# Altium integrated library Micron Memory Parallel NOR Flash.IntLib: 720 symbols (part 4 of 216)
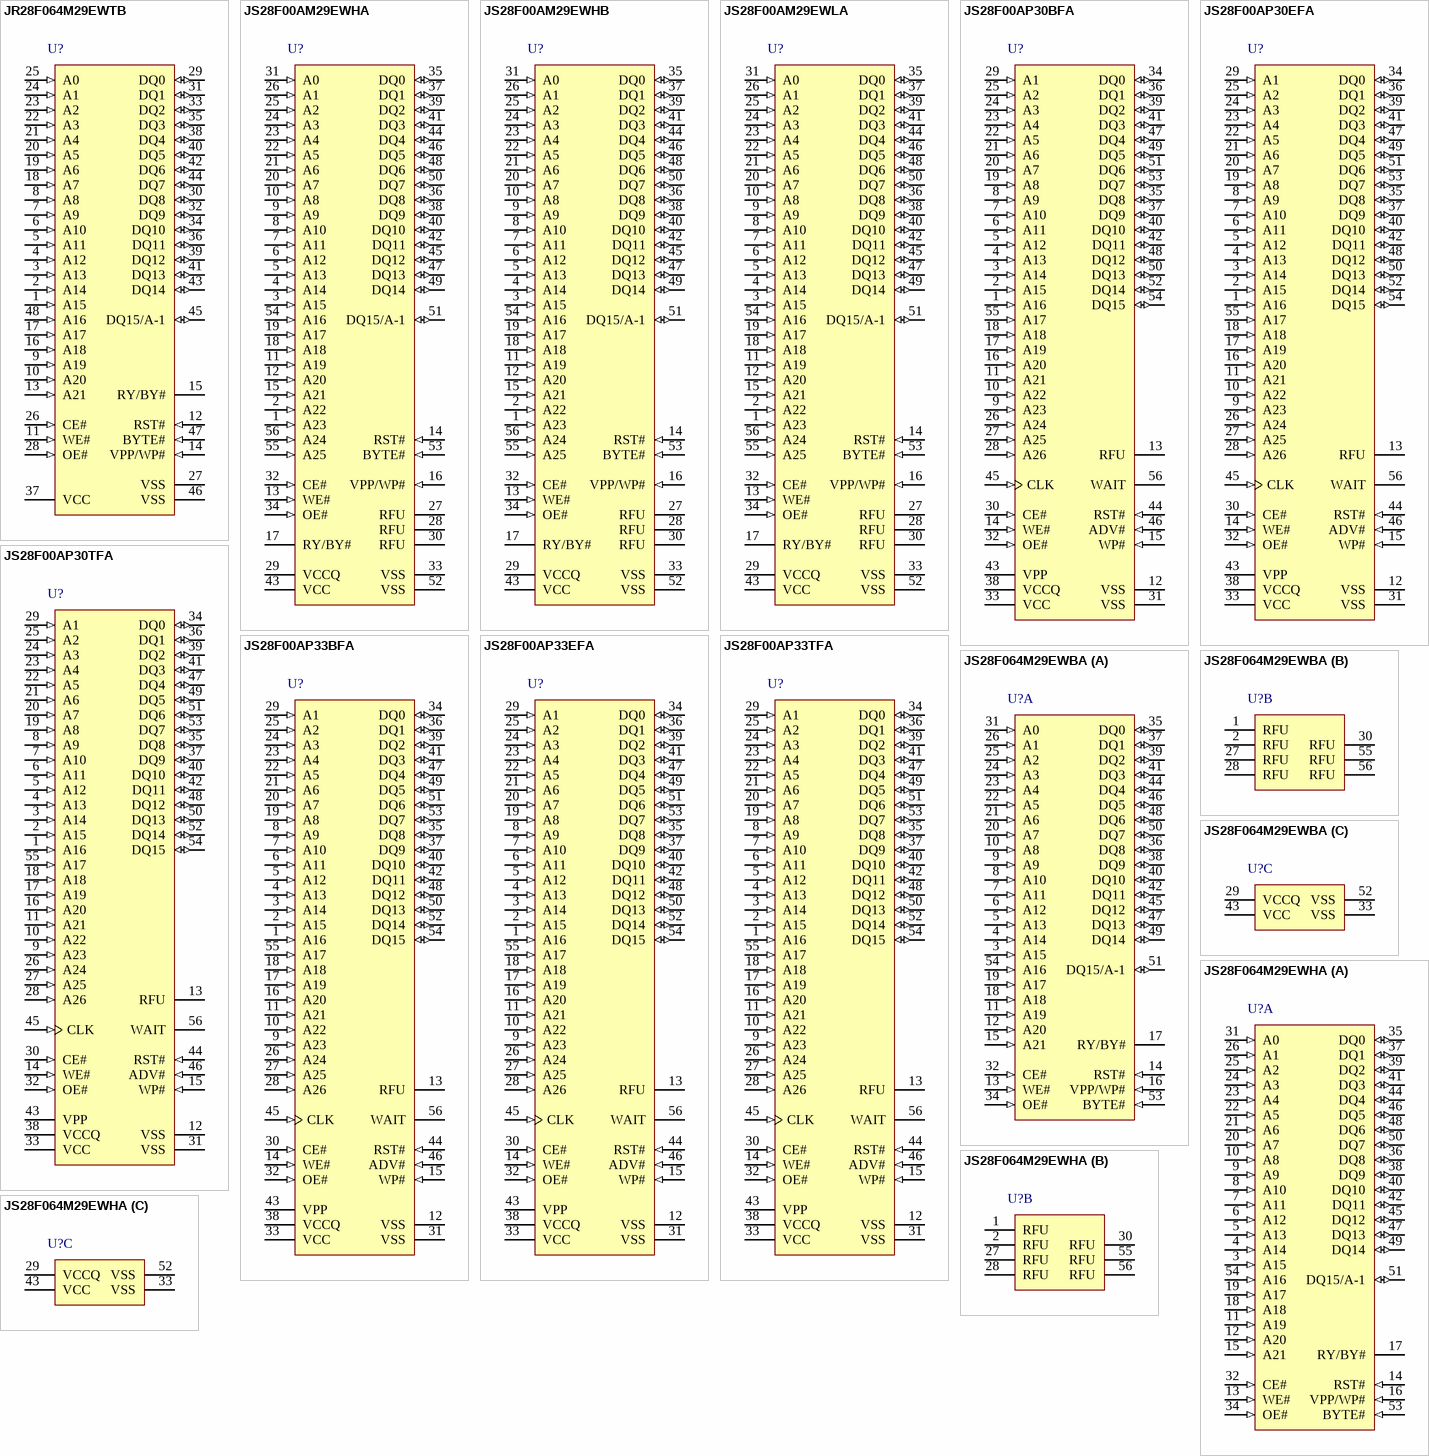
[diagram p69: symbols JR28F064M29EWTB to JS28F064M29EWHA]

## JR28F064M29EWTB
designator U?
64 Mb (x8/x16) Parallel NOR Flash Memory, 70 ns, 2.7 to 3.6 V, 48-pin TSOP (JR), Tape & Reel; Part Family: M29EW; Manufacturer: Micron; PartNumber: JR28F064M29EWTB; Density: 64Mb; Op Temp: -40C to +85C; Speed: 70ns; Voltage: 2.7V-3.6V; DatasheetVersion: Rev. A; PackageVersion: Rev. A; PackageReference: MICT-JR-48; PackageDescription: 48-Pin TSOP, 18.4 X 12 mm, Pitch 0.5 mm; RoHS: Yes; Width: x8/x16; Mounting Technology: Surface Mount; ComponentLink1Description: Manufacturer URL; ComponentLink1URL: http://www.micron.com/; ComponentLink2Description: Datasheet; ComponentLink2URL: http://www.micron.com/~/media/Documents/Products/Data%20Sheet/NOR%20Flash/Parallel/M29EW/m29ew_32mb_128mb.pdf; ComponentLink3Description: Package Specification; ComponentLink3URL: http://www.micron.com/~/media/Documents/Products/Data%20Sheet/NOR%20Flash/Parallel/M29EW/m29ew_32mb_128mb.pdf
footprint MICT-JR-48_N (SOP, 48-Leads, Body 18.4x12mm, Pitch 0.5mm, IPC Medium Density)
pins: 1 A15 (in) "Address: Selects the cells in the array to access during READ operations. During WRITE operations, they control the commands sent to the command interface of the program/erase controller.", 2 A14 (in) "Address: Selects the cells in the array to access during READ operations. During WRITE operations, they control the commands sent to the command interface of the program/erase controller.", 3 A13 (in) "Address: Selects the cells in the array to access during READ operations. During WRITE operations, they control the commands sent to the command interface of the program/erase controller.", 4 A12 (in) "Address: Selects the cells in the array to access during READ operations. During WRITE operations, they control the commands sent to the command interface of the program/erase controller.", 5 A11 (in) "Address: Selects the cells in the array to access during READ operations. During WRITE operations, they control the commands sent to the command interface of the program/erase controller.", 6 A10 (in) "Address: Selects the cells in the array to access during READ operations. During WRITE operations, they control the commands sent to the command interface of the program/erase controller.", 7 A9 (in) "Address: Selects the cells in the array to access during READ operations. During WRITE operations, they control the commands sent to the command interface of the program/erase controller.", 8 A8 (in) "Address: Selects the cells in the array to access during READ operations. During WRITE operations, they control the commands sent to the command interface of the program/erase controller.", 9 A19 (in) "Address: Selects the cells in the array to access during READ operations. During WRITE operations, they control the commands sent to the command interface of the program/erase controller.", 10 A20 (in) "Address: Selects the cells in the array to access during READ operations. During WRITE operations, they control the commands sent to the command interface of the program/erase controller.", 11 WE# (in) "Write enable: Controls the bus WRITE operation of the command interface.", 12 RST# (in) "Reset: Applies a hardware reset to the device, which is achieved by holding RST# LOW for at least tPLPX. After RST# goes HIGH, the device is ready for READ and WRITE operations (after tPHEL or tRHEL, whichever occurs last). (See Datasheet)", 13 A21 (in) "Address: Selects the cells in the array to access during READ operations. During WRITE operations, they control the commands sent to the command interface of the program/erase controller.", 14 VPP/WP# (in) "VPP/Write Protect: Provides WRITE PROTECT function and VPPH function. These functions protect the lowest or highest block or top two blocks or bottom two blocks, enable the device to enter unlock bypass mode and accelerate (See Datasheet)", 15 RY/BY# (hiz) "Ready busy: Open-drain output that can be used to identify when the device is performing a PROGRAM or ERASE operation. During PROGRAM or ERASE operations, RY/BY# is LOW, and is High-Z during read mode, auto select mode, and (See Datasheet)", 16 A18 (in) "Address: Selects the cells in the array to access during READ operations. During WRITE operations, they control the commands sent to the command interface of the program/erase controller.", 17 A17 (in) "Address: Selects the cells in the array to access during READ operations. During WRITE operations, they control the commands sent to the command interface of the program/erase controller.", 18 A7 (in) "Address: Selects the cells in the array to access during READ operations. During WRITE operations, they control the commands sent to the command interface of the program/erase controller.", 19 A6 (in) "Address: Selects the cells in the array to access during READ operations. During WRITE operations, they control the commands sent to the command interface of the program/erase controller.", 20 A5 (in) "Address: Selects the cells in the array to access during READ operations. During WRITE operations, they control the commands sent to the command interface of the program/erase controller.", 21 A4 (in) "Address: Selects the cells in the array to access during READ operations. During WRITE operations, they control the commands sent to the command interface of the program/erase controller.", 22 A3 (in) "Address: Selects the cells in the array to access during READ operations. During WRITE operations, they control the commands sent to the command interface of the program/erase controller.", 23 A2 (in) "Address: Selects the cells in the array to access during READ operations. During WRITE operations, they control the commands sent to the command interface of the program/erase controller.", 24 A1 (in) "Address: Selects the cells in the array to access during READ operations. During WRITE operations, they control the commands sent to the command interface of the program/erase controller.", 25 A0 (in) "Address: Selects the cells in the array to access during READ operations. During WRITE operations, they control the commands sent to the command interface of the program/erase controller.", 26 CE# (in) "Chip enable: Activates the device, enabling READ and WRITE operations to be performed. When CE# is HIGH, the device goes to standby and data outputs are at HIGH-Z.", 27 VSS (power) "Ground: All VSS pins must be connected to the system ground.", 28 OE# (in) "Output enable: Controls the bus READ operation.", 29 DQ0 (io) "Data I/O: Output the data stored at the selected address during a READ operation. During WRITE operations, they represent the commands sent to the command interface of the internal state machine.", 30 DQ8 (io) "Data I/O: Output the data stored at the selected address during a READ operation when BYTE# is HIGH. When BYTE# is LOW, these pins are not used and are High-Z. During WRITE operations, these bits are not used. When reading (See Datasheet)", 31 DQ1 (io) "Data I/O: Output the data stored at the selected address during a READ operation. During WRITE operations, they represent the commands sent to the command interface of the internal state machine.", 32 DQ9 (io) "Data I/O: Output the data stored at the selected address during a READ operation when BYTE# is HIGH. When BYTE# is LOW, these pins are not used and are High-Z. During WRITE operations, these bits are not used. When reading (See Datasheet)", 33 DQ2 (io) "Data I/O: Output the data stored at the selected address during a READ operation. During WRITE operations, they represent the commands sent to the command interface of the internal state machine.", 34 DQ10 (io) "Data I/O: Output the data stored at the selected address during a READ operation when BYTE# is HIGH. When BYTE# is LOW, these pins are not used and are High-Z. During WRITE operations, these bits are not used. When reading (See Datasheet)", 35 DQ3 (io) "Data I/O: Output the data stored at the selected address during a READ operation. During WRITE operations, they represent the commands sent to the command interface of the internal state machine.", 36 DQ11 (io) "Data I/O: Output the data stored at the selected address during a READ operation when BYTE# is HIGH. When BYTE# is LOW, these pins are not used and are High-Z. During WRITE operations, these bits are not used. When reading (See Datasheet)", 37 VCC (power) "Supply voltage: Provides the power supply for READ, PROGRAM, and ERASE operations. The command interface is disabled when VCC <= VLKO. This prevents WRITE operations from accidentally damaging the data during power-up, (See Datasheet)", 38 DQ4 (io) "Data I/O: Output the data stored at the selected address during a READ operation. During WRITE operations, they represent the commands sent to the command interface of the internal state machine.", 39 DQ12 (io) "Data I/O: Output the data stored at the selected address during a READ operation when BYTE# is HIGH. When BYTE# is LOW, these pins are not used and are High-Z. During WRITE operations, these bits are not used. When reading (See Datasheet)", 40 DQ5 (io) "Data I/O: Output the data stored at the selected address during a READ operation. During WRITE operations, they represent the commands sent to the command interface of the internal state machine.", 41 DQ13 (io) "Data I/O: Output the data stored at the selected address during a READ operation when BYTE# is HIGH. When BYTE# is LOW, these pins are not used and are High-Z. During WRITE operations, these bits are not used. When reading (See Datasheet)", 42 DQ6 (io) "Data I/O: Output the data stored at the selected address during a READ operation. During WRITE operations, they represent the commands sent to the command interface of the internal state machine.", 43 DQ14 (io) "Data I/O: Output the data stored at the selected address during a READ operation when BYTE# is HIGH. When BYTE# is LOW, these pins are not used and are High-Z. During WRITE operations, these bits are not used. When reading (See Datasheet)", 44 DQ7 (io) "Data I/O: Output the data stored at the selected address during a READ operation. During WRITE operations, they represent the commands sent to the command interface of the internal state machine.", 45 DQ15/A-1 (io) "Data I/O or address input: When the device operates in x16 bus mode, this pin behaves as data I/O, together with DQ[14:8]. When the device operates in x8 bus mode, this pin behaves as the least significant bit of the address.(See Datasheet)", 46 VSS (power) "Ground: All VSS pins must be connected to the system ground.", 47 BYTE# (in) "Byte/word organization select: Switches between x8 and x16 bus modes. When BYTE# is LOW, the device is in x8 mode; when HIGH, the device is in x16 mode..", 48 A16 (in) "Address: Selects the cells in the array to access during READ operations. During WRITE operations, they control the commands sent to the command interface of the program/erase controller."

## JS28F00AM29EWHA
designator U?
1 Gb (x8/x16) Parallel NOR Flash Memory, 110 ns, 2.7 to 3.6 V, 56-pin TSOP (JS), Tray; Part Family: M29EW; Manufacturer: Micron; PartNumber: JS28F00AM29EWHA; Density: 1Gb; Op Temp: -40C to +85C; Speed: 110ns; Voltage: 2.7V-3.6V; DatasheetVersion: Rev. B; PackageVersion: Rev. 12; PackageReference: MICT-JS-56; PackageDescription: 56-Pin TSOP, 18.4 X 14 mm, Pitch 0.5 mm; RoHS: Yes; Width: x8/x16; Mounting Technology: Surface Mount; ComponentLink1Description: Manufacturer URL; ComponentLink1URL: http://www.micron.com/; ComponentLink2Description: Datasheet; ComponentLink2URL: http://www.micron.com/~/media/Documents/Products/Data%20Sheet/NOR%20Flash/Parallel/M29EW/m29ew_256mb_2gb.pdf; ComponentLink3Description: Package Specification; ComponentLink3URL: http://www.micron.com/~/media/Documents/Products/Data%20Sheet/NOR%20Flash/Parallel/P33/320003_P33_65nm_MLC_256MDiscrete_512MStack_DS.pdf
footprint MICT-JS-56_N (SOP, 56-Leads, Body 18.6x14.2mm, Pitch 0.5mm, IPC Medium Density)
pins: 1 A23 (in) "Address: Selects the cells in the array to access during READ operations. During WRITE operations,they control the commands sent to the command interface of the program/erase controller.", 2 A22 (in) "Address: Selects the cells in the array to access during READ operations. During WRITE operations,they control the commands sent to the command interface of the program/erase controller.", 3 A15 (in) "Address: Selects the cells in the array to access during READ operations. During WRITE operations,they control the commands sent to the command interface of the program/erase controller.", 4 A14 (in) "Address: Selects the cells in the array to access during READ operations. During WRITE operations,they control the commands sent to the command interface of the program/erase controller.", 5 A13 (in) "Address: Selects the cells in the array to access during READ operations. During WRITE operations,they control the commands sent to the command interface of the program/erase controller.", 6 A12 (in) "Address: Selects the cells in the array to access during READ operations. During WRITE operations,they control the commands sent to the command interface of the program/erase controller.", 7 A11 (in) "Address: Selects the cells in the array to access during READ operations. During WRITE operations,they control the commands sent to the command interface of the program/erase controller.", 8 A10 (in) "Address: Selects the cells in the array to access during READ operations. During WRITE operations,they control the commands sent to the command interface of the program/erase controller.", 9 A9 (in) "Address: Selects the cells in the array to access during READ operations. During WRITE operations,they control the commands sent to the command interface of the program/erase controller.", 10 A8 (in) "Address: Selects the cells in the array to access during READ operations. During WRITE operations,they control the commands sent to the command interface of the program/erase controller.", 11 A19 (in) "Address: Selects the cells in the array to access during READ operations. During WRITE operations,they control the commands sent to the command interface of the program/erase controller.", 12 A20 (in) "Address: Selects the cells in the array to access during READ operations. During WRITE operations,they control the commands sent to the command interface of the program/erase controller.", 13 WE# (in) "Write enable: Controls the bus WRITE operation of the command interface.", 14 RST# (in) "Reset: Applies a hardware reset to the device, which is achieved by holding RST# LOW for at least tPLPX. After RST# goes HIGH, the device is ready for READ and WRITE operations (after tPHEL or tRHEL, whichever occurs last). (See Datasheet)", 15 A21 (in) "Address: Selects the cells in the array to access during READ operations. During WRITE operations,they control the commands sent to the command interface of the program/erase controller.", 16 VPP/WP# (in) "VPP/Write Protect: Provides WRITE PROTECT function and VPPH function. These functions protect the lowest or highest block and enable the device to enter unlock bypass mode, respectively.(Refer to Hardware Protection and (See Datasheet)", 17 RY/BY# (hiz) "Ready busy: Open-drain output that can be used to identify when the device is performing a PROGRAM or ERASE operation. During PROGRAM or ERASE operations, RY/BY# is LOW,and is High-Z during read mode, auto select mode, and (See Datasheet)", 18 A18 (in) "Address: Selects the cells in the array to access during READ operations. During WRITE operations,they control the commands sent to the command interface of the program/erase controller.", 19 A17 (in) "Address: Selects the cells in the array to access during READ operations. During WRITE operations,they control the commands sent to the command interface of the program/erase controller.", 20 A7 (in) "Address: Selects the cells in the array to access during READ operations. During WRITE operations,they control the commands sent to the command interface of the program/erase controller.", 21 A6 (in) "Address: Selects the cells in the array to access during READ operations. During WRITE operations,they control the commands sent to the command interface of the program/erase controller.", 22 A5 (in) "Address: Selects the cells in the array to access during READ operations. During WRITE operations,they control the commands sent to the command interface of the program/erase controller.", 23 A4 (in) "Address: Selects the cells in the array to access during READ operations. During WRITE operations,they control the commands sent to the command interface of the program/erase controller.", 24 A3 (in) "Address: Selects the cells in the array to access during READ operations. During WRITE operations,they control the commands sent to the command interface of the program/erase controller.", 25 A2 (in) "Address: Selects the cells in the array to access during READ operations. During WRITE operations,they control the commands sent to the command interface of the program/erase controller.", 26 A1 (in) "Address: Selects the cells in the array to access during READ operations. During WRITE operations,they control the commands sent to the command interface of the program/erase controller.", 27 RFU "Reserved for future use: RFUs should be not connected.", 28 RFU "Reserved for future use: RFUs should be not connected.", 29 VCCQ (power) "I/O supply voltage: Provides the power supply to the I/O pins and enables all outputs to be powered independently from VCC.", 30 RFU "Reserved for future use: RFUs should be not connected.", 31 A0 (in) "Address: Selects the cells in the array to access during READ operations. During WRITE operations,they control the commands sent to the command interface of the program/erase controller.", 32 CE# (in) "Chip enable: Activates the device, enabling READ and WRITE operations to be performed.When CE# is HIGH, the device goes to standby and data outputs are at HIGH-Z.", 33 VSS (power) "Ground: All VSS pins must be connected to the system ground.", 34 OE# (in) "Output enable: Controls the bus READ operation.", 35 DQ0 (io) "Data I/O: Output the data stored at the selected address during a READ operation. During WRITE operations, they represent the commands sent to the command interface of the internal state machine.", 36 DQ8 (io) "Data I/O: Output the data stored at the selected address during a READ operation when BYTE# is HIGH. When BYTE# is LOW, these pins are not used and are High-Z. During WRITE operations, these bits are not used. When reading (See Datasheet)", 37 DQ1 (io) "Data I/O: Output the data stored at the selected address during a READ operation. During WRITE operations, they represent the commands sent to the command interface of the internal state machine.", 38 DQ9 (io) "Data I/O: Output the data stored at the selected address during a READ operation when BYTE# is HIGH. When BYTE# is LOW, these pins are not used and are High-Z. During WRITE operations, these bits are not used. When reading (See Datasheet)", 39 DQ2 (io) "Data I/O: Output the data stored at the selected address during a READ operation. During WRITE operations, they represent the commands sent to the command interface of the internal state machine.", 40 DQ10 (io) "Data I/O: Output the data stored at the selected address during a READ operation when BYTE# is HIGH. When BYTE# is LOW, these pins are not used and are High-Z. During WRITE operations, these bits are not used. When reading (See Datasheet)", 41 DQ3 (io) "Data I/O: Output the data stored at the selected address during a READ operation. During WRITE operations, they represent the commands sent to the command interface of the internal state machine.", 42 DQ11 (io) "Data I/O: Output the data stored at the selected address during a READ operation when BYTE# is HIGH. When BYTE# is LOW, these pins are not used and are High-Z. During WRITE operations, these bits are not used. When reading (See Datasheet)", 43 VCC (power) "Supply voltage: Provides the power supply for READ, PROGRAM, and ERASE operations.The command interface is disabled when VCC <= VLKO. This prevents WRITE operations from accidentally damaging the data during power-up, (See Datasheet)", 44 DQ4 (io) "Data I/O: Output the data stored at the selected address during a READ operation. During WRITE operations, they represent the commands sent to the command interface of the internal state machine.", 45 DQ12 (io) "Data I/O: Output the data stored at the selected address during a READ operation when BYTE# is HIGH. When BYTE# is LOW, these pins are not used and are High-Z. During WRITE operations, these bits are not used. When reading (See Datasheet)", 46 DQ5 (io) "Data I/O: Output the data stored at the selected address during a READ operation. During WRITE operations, they represent the commands sent to the command interface of the internal state machine.", 47 DQ13 (io) "Data I/O: Output the data stored at the selected address during a READ operation when BYTE# is HIGH. When BYTE# is LOW, these pins are not used and are High-Z. During WRITE operations, these bits are not used. When reading (See Datasheet)", 48 DQ6 (io) "Data I/O: Output the data stored at the selected address during a READ operation. During WRITE operations, they represent the commands sent to the command interface of the internal state machine.", 49 DQ14 (io) "Data I/O: Output the data stored at the selected address during a READ operation when BYTE# is HIGH. When BYTE# is LOW, these pins are not used and are High-Z. During WRITE operations, these bits are not used. When reading (See Datasheet)", 50 DQ7 (io) "Data I/O: Output the data stored at the selected address during a READ operation. During WRITE operations, they represent the commands sent to the command interface of the internal state machine.", 51 DQ15/A-1 (io) "Data I/O or address input: When the device operates in x16 bus mode, this pin behaves as data I/O, together with DQ[14:8]. When the device operates in x8 bus mode, this pin behaves as the least significant bit of the address.(See Datasheet)", 52 VSS (power) "Ground: All VSS pins must be connected to the system ground.", 53 BYTE# (in) "Byte/word organization select: Switches between x8 and x16 bus modes. When BYTE# is LOW, the device is in x8 mode; when HIGH, the device is in x16 mode.", 54 A16 (in) "Address: Selects the cells in the array to access during READ operations. During WRITE operations,they control the commands sent to the command interface of the program/erase controller.", 55 A25 (in) "Address: Selects the cells in the array to access during READ operations. During WRITE operations,they control the commands sent to the command interface of the program/erase controller.", 56 A24 (in) "Address: Selects the cells in the array to access during READ operations. During WRITE operations,they control the commands sent to the command interface of the program/erase controller."

## JS28F00AM29EWHB
designator U?
1 Gb (x8/x16) Parallel NOR Flash Memory, 110 ns, 2.7 to 3.6 V, 56-pin TSOP (JS), Tape & Reel; Part Family: M29EW; Manufacturer: Micron; PartNumber: JS28F00AM29EWHB; Density: 1Gb; Op Temp: -40C to +85C; Speed: 110ns; Voltage: 2.7V-3.6V; DatasheetVersion: Rev. B; PackageVersion: Rev. 12; PackageReference: MICT-JS-56; PackageDescription: 56-Pin TSOP, 18.4 X 14 mm, Pitch 0.5 mm; RoHS: Yes; Width: x8/x16; Mounting Technology: Surface Mount; ComponentLink1Description: Manufacturer URL; ComponentLink1URL: http://www.micron.com/; ComponentLink2Description: Datasheet; ComponentLink2URL: http://www.micron.com/~/media/Documents/Products/Data%20Sheet/NOR%20Flash/Parallel/M29EW/m29ew_256mb_2gb.pdf; ComponentLink3Description: Package Specification; ComponentLink3URL: http://www.micron.com/~/media/Documents/Products/Data%20Sheet/NOR%20Flash/Parallel/P33/320003_P33_65nm_MLC_256MDiscrete_512MStack_DS.pdf
footprint MICT-JS-56_N (SOP, 56-Leads, Body 18.6x14.2mm, Pitch 0.5mm, IPC Medium Density)
pins: 1 A23 (in) "Address: Selects the cells in the array to access during READ operations. During WRITE operations,they control the commands sent to the command interface of the program/erase controller.", 2 A22 (in) "Address: Selects the cells in the array to access during READ operations. During WRITE operations,they control the commands sent to the command interface of the program/erase controller.", 3 A15 (in) "Address: Selects the cells in the array to access during READ operations. During WRITE operations,they control the commands sent to the command interface of the program/erase controller.", 4 A14 (in) "Address: Selects the cells in the array to access during READ operations. During WRITE operations,they control the commands sent to the command interface of the program/erase controller.", 5 A13 (in) "Address: Selects the cells in the array to access during READ operations. During WRITE operations,they control the commands sent to the command interface of the program/erase controller.", 6 A12 (in) "Address: Selects the cells in the array to access during READ operations. During WRITE operations,they control the commands sent to the command interface of the program/erase controller.", 7 A11 (in) "Address: Selects the cells in the array to access during READ operations. During WRITE operations,they control the commands sent to the command interface of the program/erase controller.", 8 A10 (in) "Address: Selects the cells in the array to access during READ operations. During WRITE operations,they control the commands sent to the command interface of the program/erase controller.", 9 A9 (in) "Address: Selects the cells in the array to access during READ operations. During WRITE operations,they control the commands sent to the command interface of the program/erase controller.", 10 A8 (in) "Address: Selects the cells in the array to access during READ operations. During WRITE operations,they control the commands sent to the command interface of the program/erase controller.", 11 A19 (in) "Address: Selects the cells in the array to access during READ operations. During WRITE operations,they control the commands sent to the command interface of the program/erase controller.", 12 A20 (in) "Address: Selects the cells in the array to access during READ operations. During WRITE operations,they control the commands sent to the command interface of the program/erase controller.", 13 WE# (in) "Write enable: Controls the bus WRITE operation of the command interface.", 14 RST# (in) "Reset: Applies a hardware reset to the device, which is achieved by holding RST# LOW for at least tPLPX. After RST# goes HIGH, the device is ready for READ and WRITE operations (after tPHEL or tRHEL, whichever occurs last). (See Datasheet)", 15 A21 (in) "Address: Selects the cells in the array to access during READ operations. During WRITE operations,they control the commands sent to the command interface of the program/erase controller.", 16 VPP/WP# (in) "VPP/Write Protect: Provides WRITE PROTECT function and VPPH function. These functions protect the lowest or highest block and enable the device to enter unlock bypass mode, respectively.(Refer to Hardware Protection and (See Datasheet)", 17 RY/BY# (hiz) "Ready busy: Open-drain output that can be used to identify when the device is performing a PROGRAM or ERASE operation. During PROGRAM or ERASE operations, RY/BY# is LOW,and is High-Z during read mode, auto select mode, and (See Datasheet)", 18 A18 (in) "Address: Selects the cells in the array to access during READ operations. During WRITE operations,they control the commands sent to the command interface of the program/erase controller.", 19 A17 (in) "Address: Selects the cells in the array to access during READ operations. During WRITE operations,they control the commands sent to the command interface of the program/erase controller.", 20 A7 (in) "Address: Selects the cells in the array to access during READ operations. During WRITE operations,they control the commands sent to the command interface of the program/erase controller.", 21 A6 (in) "Address: Selects the cells in the array to access during READ operations. During WRITE operations,they control the commands sent to the command interface of the program/erase controller.", 22 A5 (in) "Address: Selects the cells in the array to access during READ operations. During WRITE operations,they control the commands sent to the command interface of the program/erase controller.", 23 A4 (in) "Address: Selects the cells in the array to access during READ operations. During WRITE operations,they control the commands sent to the command interface of the program/erase controller.", 24 A3 (in) "Address: Selects the cells in the array to access during READ operations. During WRITE operations,they control the commands sent to the command interface of the program/erase controller.", 25 A2 (in) "Address: Selects the cells in the array to access during READ operations. During WRITE operations,they control the commands sent to the command interface of the program/erase controller.", 26 A1 (in) "Address: Selects the cells in the array to access during READ operations. During WRITE operations,they control the commands sent to the command interface of the program/erase controller.", 27 RFU "Reserved for future use: RFUs should be not connected.", 28 RFU "Reserved for future use: RFUs should be not connected.", 29 VCCQ (power) "I/O supply voltage: Provides the power supply to the I/O pins and enables all outputs to be powered independently from VCC.", 30 RFU "Reserved for future use: RFUs should be not connected.", 31 A0 (in) "Address: Selects the cells in the array to access during READ operations. During WRITE operations,they control the commands sent to the command interface of the program/erase controller.", 32 CE# (in) "Chip enable: Activates the device, enabling READ and WRITE operations to be performed.When CE# is HIGH, the device goes to standby and data outputs are at HIGH-Z.", 33 VSS (power) "Ground: All VSS pins must be connected to the system ground.", 34 OE# (in) "Output enable: Controls the bus READ operation.", 35 DQ0 (io) "Data I/O: Output the data stored at the selected address during a READ operation. During WRITE operations, they represent the commands sent to the command interface of the internal state machine.", 36 DQ8 (io) "Data I/O: Output the data stored at the selected address during a READ operation when BYTE# is HIGH. When BYTE# is LOW, these pins are not used and are High-Z. During WRITE operations, these bits are not used. When reading (See Datasheet)", 37 DQ1 (io) "Data I/O: Output the data stored at the selected address during a READ operation. During WRITE operations, they represent the commands sent to the command interface of the internal state machine.", 38 DQ9 (io) "Data I/O: Output the data stored at the selected address during a READ operation when BYTE# is HIGH. When BYTE# is LOW, these pins are not used and are High-Z. During WRITE operations, these bits are not used. When reading (See Datasheet)", 39 DQ2 (io) "Data I/O: Output the data stored at the selected address during a READ operation. During WRITE operations, they represent the commands sent to the command interface of the internal state machine.", 40 DQ10 (io) "Data I/O: Output the data stored at the selected address during a READ operation when BYTE# is HIGH. When BYTE# is LOW, these pins are not used and are High-Z. During WRITE operations, these bits are not used. When reading (See Datasheet)", 41 DQ3 (io) "Data I/O: Output the data stored at the selected address during a READ operation. During WRITE operations, they represent the commands sent to the command interface of the internal state machine.", 42 DQ11 (io) "Data I/O: Output the data stored at the selected address during a READ operation when BYTE# is HIGH. When BYTE# is LOW, these pins are not used and are High-Z. During WRITE operations, these bits are not used. When reading (See Datasheet)", 43 VCC (power) "Supply voltage: Provides the power supply for READ, PROGRAM, and ERASE operations.The command interface is disabled when VCC <= VLKO. This prevents WRITE operations from accidentally damaging the data during power-up, (See Datasheet)", 44 DQ4 (io) "Data I/O: Output the data stored at the selected address during a READ operation. During WRITE operations, they represent the commands sent to the command interface of the internal state machine.", 45 DQ12 (io) "Data I/O: Output the data stored at the selected address during a READ operation when BYTE# is HIGH. When BYTE# is LOW, these pins are not used and are High-Z. During WRITE operations, these bits are not used. When reading (See Datasheet)", 46 DQ5 (io) "Data I/O: Output the data stored at the selected address during a READ operation. During WRITE operations, they represent the commands sent to the command interface of the internal state machine.", 47 DQ13 (io) "Data I/O: Output the data stored at the selected address during a READ operation when BYTE# is HIGH. When BYTE# is LOW, these pins are not used and are High-Z. During WRITE operations, these bits are not used. When reading (See Datasheet)", 48 DQ6 (io) "Data I/O: Output the data stored at the selected address during a READ operation. During WRITE operations, they represent the commands sent to the command interface of the internal state machine.", 49 DQ14 (io) "Data I/O: Output the data stored at the selected address during a READ operation when BYTE# is HIGH. When BYTE# is LOW, these pins are not used and are High-Z. During WRITE operations, these bits are not used. When reading (See Datasheet)", 50 DQ7 (io) "Data I/O: Output the data stored at the selected address during a READ operation. During WRITE operations, they represent the commands sent to the command interface of the internal state machine.", 51 DQ15/A-1 (io) "Data I/O or address input: When the device operates in x16 bus mode, this pin behaves as data I/O, together with DQ[14:8]. When the device operates in x8 bus mode, this pin behaves as the least significant bit of the address.(See Datasheet)", 52 VSS (power) "Ground: All VSS pins must be connected to the system ground.", 53 BYTE# (in) "Byte/word organization select: Switches between x8 and x16 bus modes. When BYTE# is LOW, the device is in x8 mode; when HIGH, the device is in x16 mode.", 54 A16 (in) "Address: Selects the cells in the array to access during READ operations. During WRITE operations,they control the commands sent to the command interface of the program/erase controller.", 55 A25 (in) "Address: Selects the cells in the array to access during READ operations. During WRITE operations,they control the commands sent to the command interface of the program/erase controller.", 56 A24 (in) "Address: Selects the cells in the array to access during READ operations. During WRITE operations,they control the commands sent to the command interface of the program/erase controller."

## JS28F00AM29EWLA
designator U?
1 Gb (x8/x16) Parallel NOR Flash Memory, 110 ns, 2.7 to 3.6 V, 56-pin TSOP (JS), Tray; Part Family: M29EW; Manufacturer: Micron; PartNumber: JS28F00AM29EWLA; Density: 1Gb; Op Temp: -40C to +85C; Speed: 110ns; Voltage: 2.7V-3.6V; DatasheetVersion: Rev. B; PackageVersion: Rev. 12; PackageReference: MICT-JS-56; PackageDescription: 56-Pin TSOP, 18.4 X 14 mm, Pitch 0.5 mm; RoHS: Yes; Width: x8/x16; Mounting Technology: Surface Mount; ComponentLink1Description: Manufacturer URL; ComponentLink1URL: http://www.micron.com/; ComponentLink2Description: Datasheet; ComponentLink2URL: http://www.micron.com/~/media/Documents/Products/Data%20Sheet/NOR%20Flash/Parallel/M29EW/m29ew_256mb_2gb.pdf; ComponentLink3Description: Package Specification; ComponentLink3URL: http://www.micron.com/~/media/Documents/Products/Data%20Sheet/NOR%20Flash/Parallel/P33/320003_P33_65nm_MLC_256MDiscrete_512MStack_DS.pdf
footprint MICT-JS-56_N (SOP, 56-Leads, Body 18.6x14.2mm, Pitch 0.5mm, IPC Medium Density)
pins: 1 A23 (in) "Address: Selects the cells in the array to access during READ operations. During WRITE operations,they control the commands sent to the command interface of the program/erase controller.", 2 A22 (in) "Address: Selects the cells in the array to access during READ operations. During WRITE operations,they control the commands sent to the command interface of the program/erase controller.", 3 A15 (in) "Address: Selects the cells in the array to access during READ operations. During WRITE operations,they control the commands sent to the command interface of the program/erase controller.", 4 A14 (in) "Address: Selects the cells in the array to access during READ operations. During WRITE operations,they control the commands sent to the command interface of the program/erase controller.", 5 A13 (in) "Address: Selects the cells in the array to access during READ operations. During WRITE operations,they control the commands sent to the command interface of the program/erase controller.", 6 A12 (in) "Address: Selects the cells in the array to access during READ operations. During WRITE operations,they control the commands sent to the command interface of the program/erase controller.", 7 A11 (in) "Address: Selects the cells in the array to access during READ operations. During WRITE operations,they control the commands sent to the command interface of the program/erase controller.", 8 A10 (in) "Address: Selects the cells in the array to access during READ operations. During WRITE operations,they control the commands sent to the command interface of the program/erase controller.", 9 A9 (in) "Address: Selects the cells in the array to access during READ operations. During WRITE operations,they control the commands sent to the command interface of the program/erase controller.", 10 A8 (in) "Address: Selects the cells in the array to access during READ operations. During WRITE operations,they control the commands sent to the command interface of the program/erase controller.", 11 A19 (in) "Address: Selects the cells in the array to access during READ operations. During WRITE operations,they control the commands sent to the command interface of the program/erase controller.", 12 A20 (in) "Address: Selects the cells in the array to access during READ operations. During WRITE operations,they control the commands sent to the command interface of the program/erase controller.", 13 WE# (in) "Write enable: Controls the bus WRITE operation of the command interface.", 14 RST# (in) "Reset: Applies a hardware reset to the device, which is achieved by holding RST# LOW for at least tPLPX. After RST# goes HIGH, the device is ready for READ and WRITE operations (after tPHEL or tRHEL, whichever occurs last). (See Datasheet)", 15 A21 (in) "Address: Selects the cells in the array to access during READ operations. During WRITE operations,they control the commands sent to the command interface of the program/erase controller.", 16 VPP/WP# (in) "VPP/Write Protect: Provides WRITE PROTECT function and VPPH function. These functions protect the lowest or highest block and enable the device to enter unlock bypass mode, respectively.(Refer to Hardware Protection and (See Datasheet)", 17 RY/BY# (hiz) "Ready busy: Open-drain output that can be used to identify when the device is performing a PROGRAM or ERASE operation. During PROGRAM or ERASE operations, RY/BY# is LOW,and is High-Z during read mode, auto select mode, and (See Datasheet)", 18 A18 (in) "Address: Selects the cells in the array to access during READ operations. During WRITE operations,they control the commands sent to the command interface of the program/erase controller.", 19 A17 (in) "Address: Selects the cells in the array to access during READ operations. During WRITE operations,they control the commands sent to the command interface of the program/erase controller.", 20 A7 (in) "Address: Selects the cells in the array to access during READ operations. During WRITE operations,they control the commands sent to the command interface of the program/erase controller.", 21 A6 (in) "Address: Selects the cells in the array to access during READ operations. During WRITE operations,they control the commands sent to the command interface of the program/erase controller.", 22 A5 (in) "Address: Selects the cells in the array to access during READ operations. During WRITE operations,they control the commands sent to the command interface of the program/erase controller.", 23 A4 (in) "Address: Selects the cells in the array to access during READ operations. During WRITE operations,they control the commands sent to the command interface of the program/erase controller.", 24 A3 (in) "Address: Selects the cells in the array to access during READ operations. During WRITE operations,they control the commands sent to the command interface of the program/erase controller.", 25 A2 (in) "Address: Selects the cells in the array to access during READ operations. During WRITE operations,they control the commands sent to the command interface of the program/erase controller.", 26 A1 (in) "Address: Selects the cells in the array to access during READ operations. During WRITE operations,they control the commands sent to the command interface of the program/erase controller.", 27 RFU "Reserved for future use: RFUs should be not connected.", 28 RFU "Reserved for future use: RFUs should be not connected.", 29 VCCQ (power) "I/O supply voltage: Provides the power supply to the I/O pins and enables all outputs to be powered independently from VCC.", 30 RFU "Reserved for future use: RFUs should be not connected.", 31 A0 (in) "Address: Selects the cells in the array to access during READ operations. During WRITE operations,they control the commands sent to the command interface of the program/erase controller.", 32 CE# (in) "Chip enable: Activates the device, enabling READ and WRITE operations to be performed.When CE# is HIGH, the device goes to standby and data outputs are at HIGH-Z.", 33 VSS (power) "Ground: All VSS pins must be connected to the system ground.", 34 OE# (in) "Output enable: Controls the bus READ operation.", 35 DQ0 (io) "Data I/O: Output the data stored at the selected address during a READ operation. During WRITE operations, they represent the commands sent to the command interface of the internal state machine.", 36 DQ8 (io) "Data I/O: Output the data stored at the selected address during a READ operation when BYTE# is HIGH. When BYTE# is LOW, these pins are not used and are High-Z. During WRITE operations, these bits are not used. When reading (See Datasheet)", 37 DQ1 (io) "Data I/O: Output the data stored at the selected address during a READ operation. During WRITE operations, they represent the commands sent to the command interface of the internal state machine.", 38 DQ9 (io) "Data I/O: Output the data stored at the selected address during a READ operation when BYTE# is HIGH. When BYTE# is LOW, these pins are not used and are High-Z. During WRITE operations, these bits are not used. When reading (See Datasheet)", 39 DQ2 (io) "Data I/O: Output the data stored at the selected address during a READ operation. During WRITE operations, they represent the commands sent to the command interface of the internal state machine.", 40 DQ10 (io) "Data I/O: Output the data stored at the selected address during a READ operation when BYTE# is HIGH. When BYTE# is LOW, these pins are not used and are High-Z. During WRITE operations, these bits are not used. When reading (See Datasheet)", 41 DQ3 (io) "Data I/O: Output the data stored at the selected address during a READ operation. During WRITE operations, they represent the commands sent to the command interface of the internal state machine.", 42 DQ11 (io) "Data I/O: Output the data stored at the selected address during a READ operation when BYTE# is HIGH. When BYTE# is LOW, these pins are not used and are High-Z. During WRITE operations, these bits are not used. When reading (See Datasheet)", 43 VCC (power) "Supply voltage: Provides the power supply for READ, PROGRAM, and ERASE operations.The command interface is disabled when VCC <= VLKO. This prevents WRITE operations from accidentally damaging the data during power-up, (See Datasheet)", 44 DQ4 (io) "Data I/O: Output the data stored at the selected address during a READ operation. During WRITE operations, they represent the commands sent to the command interface of the internal state machine.", 45 DQ12 (io) "Data I/O: Output the data stored at the selected address during a READ operation when BYTE# is HIGH. When BYTE# is LOW, these pins are not used and are High-Z. During WRITE operations, these bits are not used. When reading (See Datasheet)", 46 DQ5 (io) "Data I/O: Output the data stored at the selected address during a READ operation. During WRITE operations, they represent the commands sent to the command interface of the internal state machine.", 47 DQ13 (io) "Data I/O: Output the data stored at the selected address during a READ operation when BYTE# is HIGH. When BYTE# is LOW, these pins are not used and are High-Z. During WRITE operations, these bits are not used. When reading (See Datasheet)", 48 DQ6 (io) "Data I/O: Output the data stored at the selected address during a READ operation. During WRITE operations, they represent the commands sent to the command interface of the internal state machine.", 49 DQ14 (io) "Data I/O: Output the data stored at the selected address during a READ operation when BYTE# is HIGH. When BYTE# is LOW, these pins are not used and are High-Z. During WRITE operations, these bits are not used. When reading (See Datasheet)", 50 DQ7 (io) "Data I/O: Output the data stored at the selected address during a READ operation. During WRITE operations, they represent the commands sent to the command interface of the internal state machine.", 51 DQ15/A-1 (io) "Data I/O or address input: When the device operates in x16 bus mode, this pin behaves as data I/O, together with DQ[14:8]. When the device operates in x8 bus mode, this pin behaves as the least significant bit of the address.(See Datasheet)", 52 VSS (power) "Ground: All VSS pins must be connected to the system ground.", 53 BYTE# (in) "Byte/word organization select: Switches between x8 and x16 bus modes. When BYTE# is LOW, the device is in x8 mode; when HIGH, the device is in x16 mode.", 54 A16 (in) "Address: Selects the cells in the array to access during READ operations. During WRITE operations,they control the commands sent to the command interface of the program/erase controller.", 55 A25 (in) "Address: Selects the cells in the array to access during READ operations. During WRITE operations,they control the commands sent to the command interface of the program/erase controller.", 56 A24 (in) "Address: Selects the cells in the array to access during READ operations. During WRITE operations,they control the commands sent to the command interface of the program/erase controller."